# Altium footprint library FireFly.PcbLib: 18 footprints (part 1 of 2)
Each footprint in its own frame and in the unit in brackets; x right, y up, seen from the top. Pads: shape width x height; smd on the part's side, far side on the other; paste and mask are expansions set on the pad; w line width, h text height; cw(c..) or ccw(c..) is an arc to the next point about the centre after c.
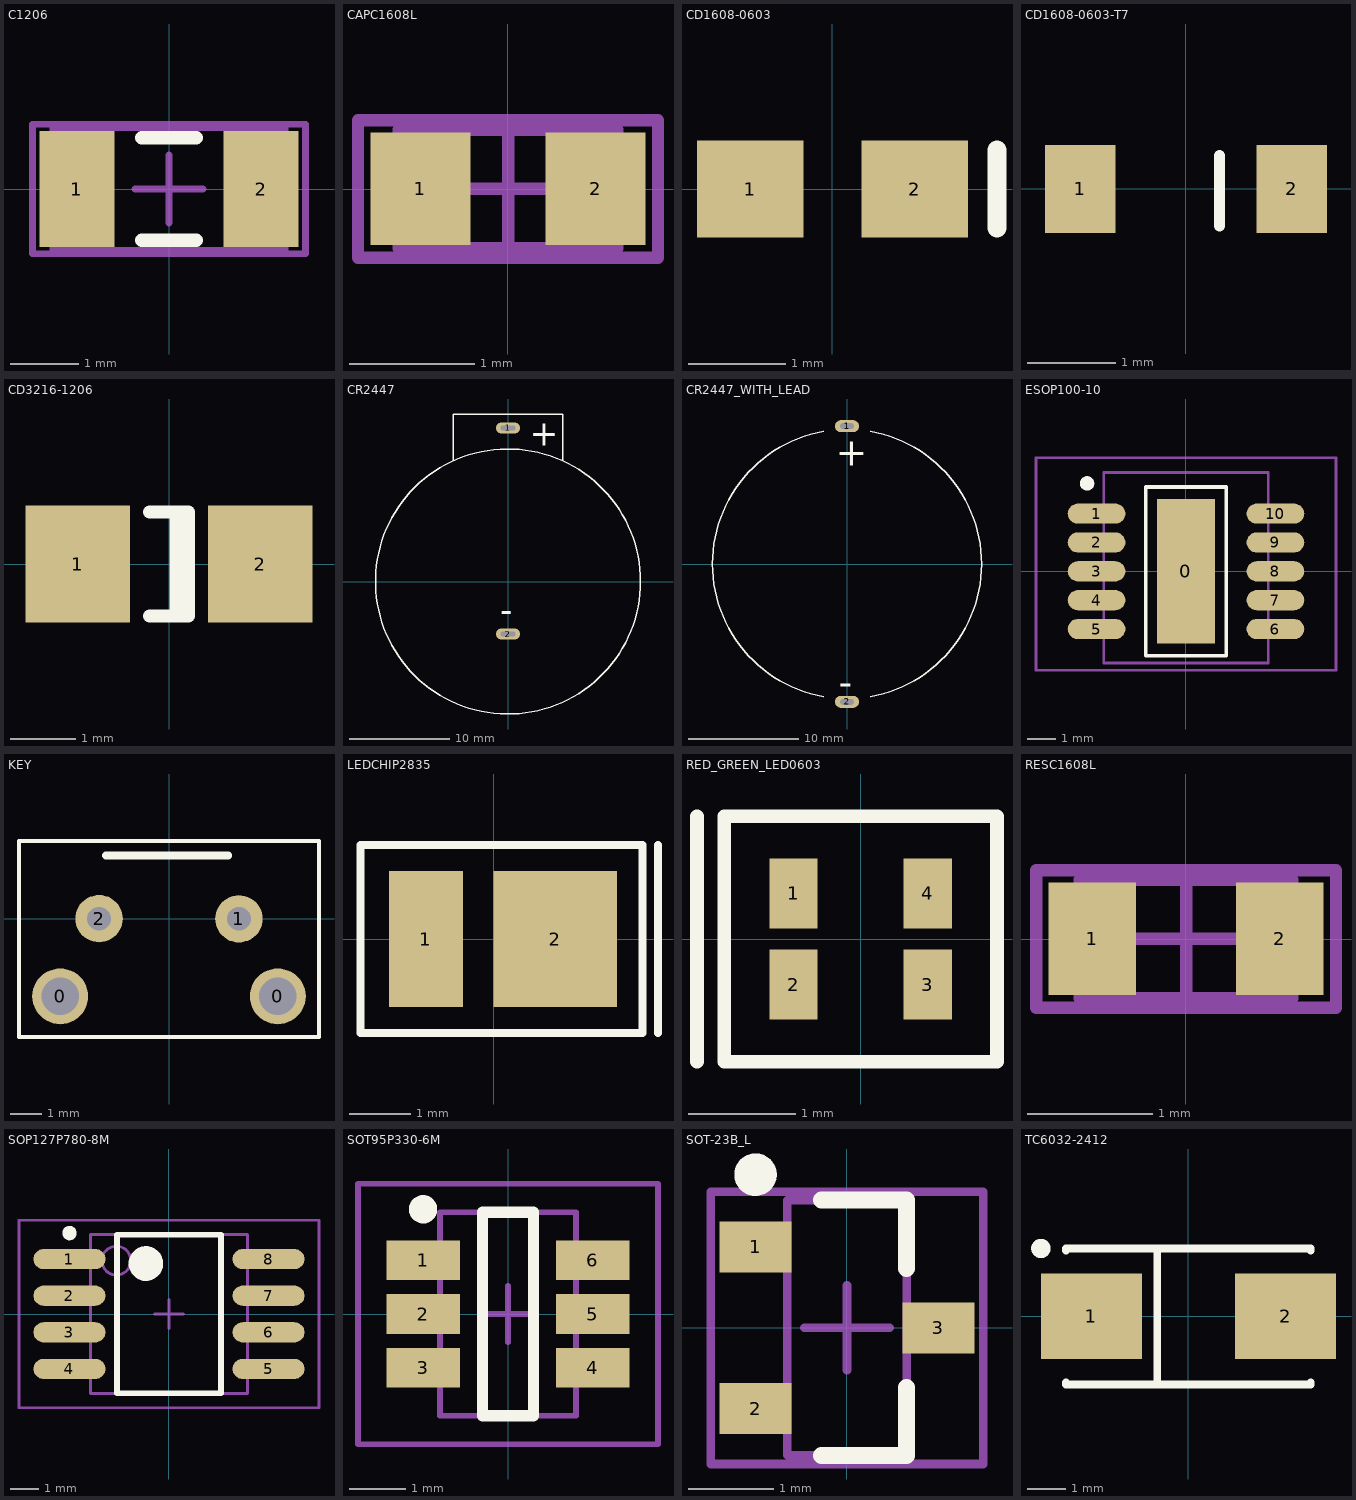
[diagram p0: the footprints below, top view; thin cyan lines are the x and y axes]

## C1206 [mm] "Chip Capacitor, Body 3.2x1.6mm, IPC High Density"
height 1.3
pads (2):
  rect 1.1x1.7 smd: 1(-1.35,0) 2(1.35,0)
Top Overlay:
  lines w0.2: -0.4,-0.75 0.4,-0.75 ; -0.4,0.75 0.4,0.75
Mechanical 13:
  lines w0.1: -1.7,-0.9 -1.7,0.9 1.7,0.9 1.7,-0.9 -1.7,-0.9
Mechanical 15:
  lines w0.1: -0.5,0 0.5,0 ; 0,-0.5 0,0.5 ; -2,-0.95 -2,0.95 2,0.95 2,-0.95 -2,-0.95
3D body: height 1.3, standoff 0, extent -1.7,-0.9 1.7,0.9

## CAPC1608L [mm] "Chip Capacitor, Body 1.6x0.8mm, IPC High Density"
height 0.85
pads (2):
  rect 0.8x0.9 smd: 1(-0.7,0) 2(0.7,0)
Mechanical 13:
  lines w0.1: -0.875,-0.475 0.875,-0.475 0.875,0.475 -0.875,0.475 -0.875,-0.475
Mechanical 15:
  lines w0.1: -0.475,0 0.475,0 ; 0,-0.475 0,0.475 ; -1.2,-0.55 1.2,-0.55 1.2,0.55 -1.2,0.55 -1.2,-0.55
3D body: height 0.85, standoff 0, extent -0.875,-0.475 0.875,0.475

## CD1608-0603 [mm] "Chip Diode; Body 1.6 x 0.8 mm (LxW typ)"
height 0.85
pads (2):
  rect 1.1x1 smd: 1(-0.85,0) 2(0.85,0)
Top Overlay:
  lines w0.2: 1.7,-0.4 1.7,0.4

## CD1608-0603-T7 [mm] "Chip Diode; Body 1.6 x 0.8 mm (LxW typ)"
height 0.85
pads (2):
  rect 0.8x1 smd: 1(-1.2,0) 2(1.2,0)
Top Overlay:
  lines w0.127: 0.381,-0.419 0.381,0.381

## CD3216-1206 [mm] "Chip Diode; Body 3.2 x 1.6 mm (LxW typ)"
height 1.35
pads (2):
  rect 1.6x1.8 smd: 1(-1.4,0) 2(1.4,0)
Top Overlay:
  lines w0.2: -0.3,-0.8 0.3,-0.8 0.3,0.8 -0.3,0.8 ; 0.11,-0.8 0.11,0.8

## CR2447 [mm] "CR2447 Box"
pads (2):
  oval 2.4x1.1 hole 0.5 slot 1.5 at 0 deg: 1(0,15.35) 2(0,-5.25)
Top Overlay:
  circle w0.128: c0,0 r13.25
  lines w0.127: -5.5,12.104 -5.5,16.75 5.5,16.75 5.5,12.104
  text "-" at -0.762,-4.056 h2.52
  text "+" at 2.159,13.589 h2.52

## CR2447_WITH_LEAD [mm] "CR2447 Box"
pads (2):
  oval 2.2x1.1 hole 0.5 slot 1.2 at 0 deg: 1(0,12.5) 2(0,-12.5)
Top Overlay:
  lines w0.127: 2.119,-12.015 ccw(c0,0) 2.119,12.015
  lines w0.128: -2.119,-12.015 cw(c0,0) -2.119,12.015
  text "-" at -0.762,-11.93 h2.52
  text "+" at -1.016,8.89 h2.52

## ESOP100-10 [mm] "10-Pin Small Outline Package 1.00 mm Pitch and Pad"
height 2.2
pads (11):
  rect 2x5 smd: 0(0,0)
  oval 2x0.7 smd: 1(-3.1,2) 2(-3.1,1) 3(-3.1,0) 4(-3.1,-1) 5(-3.1,-2) 6(3.1,-2) 7(3.1,-1) 8(3.1,0) 9(3.1,1) 10(3.1,2)
Top Overlay:
  circle w0.25: c-3.429,3.048 r0.125
  lines w0.127: -1.397,-2.921 1.397,-2.921 1.397,2.921 -1.397,2.921 -1.397,-2.921
Mechanical 13:
  lines w0.1: -2.85,-3.175 2.85,-3.175 2.85,3.429 -2.85,3.429 -2.85,-3.175
Mechanical 15:
  lines w0.1: -0.5,0 0.5,0 ; 0,-0.5 0,0.5 ; -5.2,-3.429 5.2,-3.429 5.2,3.937 -5.2,3.937 -5.2,-3.429
3D body: height 2.2, standoff 0, extent -2.85,-3.175 2.85,3.429

## KEY [mm]
pads (4):
  round 1.8 hole 1.2: 0(-3.5,-2.5) 0(3.5,-2.5)
  round 1.524 hole 0.762: 1(2.25,-0.007) 2(-2.25,0)
Top Overlay:
  lines w0.127: -4.826,-3.81 4.826,-3.81 4.826,2.5 -4.826,2.5 -4.826,-3.81
  lines w0.254: -2.032,2.032 1.905,2.032

## LEDCHIP2835 [mm] "LEDCHIP2835"
pads (2):
  rect 1.2x2.2 smd: 1(-1.1,0)
  rect 2x2.2 smd: 2(1,0)
Top Overlay:
  lines w0.127: 2.667,-1.524 2.667,1.524 ; -2.159,-1.524 2.413,-1.524 2.413,1.524 -2.159,1.524 -2.159,-1.524
3D body: height 0.7, standoff 0, extent -1.524,-1.397 1.778,1.397

## RED_GREEN_LED0603 [mm] "RED_GREEN_LED0603"
pads (4):
  rect 0.45x0.65 smd mask-2539.97: 1(-0.625,0.425) 2(-0.625,-0.425) 3(0.625,-0.425) 4(0.625,0.425)
Top Overlay:
  lines w0.127: -1.524,-1.143 -1.524,1.143 ; -1.27,-1.143 -1.27,1.143 1.27,1.143 1.27,-1.143 -1.27,-1.143
Top Solder:
  region: -0.875,0.075 -0.875,0.775 -0.375,0.775 -0.375,0.075
  region: -0.875,-0.775 -0.875,-0.075 -0.375,-0.075 -0.375,-0.775
  region: 0.375,0.075 0.375,0.775 0.875,0.775 0.875,0.075
  region: 0.375,-0.775 0.375,-0.075 0.875,-0.075 0.875,-0.775

## RESC1608L [mm] "Chip Resistor, Body 1.6x0.8mm, IPC High Density"
height 0.6
pads (2):
  rect 0.7x0.9 smd: 1(-0.75,0) 2(0.75,0)
Mechanical 13:
  lines w0.1: -0.85,-0.475 -0.85,0.475 0.85,0.475 0.85,-0.475 -0.85,-0.475
Mechanical 15:
  lines w0.1: -0.475,0 0.475,0 ; 0,-0.475 0,0.475 ; -1.2,-0.55 -1.2,0.55 1.2,0.55 1.2,-0.55 -1.2,-0.55
3D body: height 0.6, standoff 0, extent -0.85,-0.475 0.85,0.475

## SOP127P780-8M [mm] "SOP, 8-Leads, Body 5.3x5.3mm, Pitch 1.27mm, IPC Low Density"
height 2.03
pads (8):
  oval 2.5x0.7 smd: 1(-3.45,1.905) 2(-3.45,0.635) 3(-3.45,-0.635) 4(-3.45,-1.905) 5(3.45,-1.905) 6(3.45,-0.635) 7(3.45,0.635) 8(3.45,1.905)
Top Overlay:
  circle w0.6: c-0.8,1.75 r0.3
  circle w0.25: c-3.45,2.805 r0.125
  lines w0.2: -1.8,-2.75 1.8,-2.75 1.8,2.75 -1.8,2.75 -1.8,-2.75
Mechanical 13:
  circle w0.1: c-1.825,1.85 r0.5
  lines w0.1: -2.725,-2.75 2.725,-2.75 2.725,2.75 -2.725,2.75 -2.725,-2.75
Mechanical 15:
  lines w0.1: -0.5,0 0.5,0 ; 0,-0.5 0,0.5 ; -5.2,-3.25 5.2,-3.25 5.2,3.25 -5.2,3.25 -5.2,-3.25
3D body: height 2.03, standoff 0, extent -2.725,-2.75 2.725,2.75

## SOT95P330-6M [mm]
pads (6):
  rect 1.3x0.7 smd: 1(-1.5,0.95) 2(-1.5,0) 3(-1.5,-0.95) 4(1.5,-0.95) 5(1.5,0) 6(1.5,0.95)
Top Overlay:
  circle w0.25: c-1.5,1.85 r0.125
  lines w0.2: -0.45,-1.8 0.45,-1.8 0.45,1.8 -0.45,1.8 -0.45,-1.8
Mechanical 13:
  lines w0.1: -1.2,-1.8 -1.2,1.8 1.2,1.8 1.2,-1.8 -1.2,-1.8
Mechanical 15:
  lines w0.1: -0.5,0 0.5,0 ; 0,-0.5 0,0.5 ; -2.65,-2.3 -2.65,2.3 2.65,2.3 2.65,-2.3 -2.65,-2.3
3D body: height 0, standoff 0, extent -1.2,-1.8 1.2,1.8

## SOT-23B_L [mm] "SOT23, 3-Leads, Body 2.9x1.3mm, Pitch 0.95mm, Lead Span 2.4mm, IPC High Density"
height 1.14
pads (3):
  rect 0.85x0.6 smd: 1(-1.075,0.95) 2(-1.075,-0.95) 3(1.075,0)
Top Overlay:
  circle w0.25: c-1.075,1.8 r0.125
  lines w0.2: -0.3,-1.5 0.7,-1.5 0.7,-0.7 ; -0.3,1.5 0.7,1.5 0.7,0.7
Mechanical 13:
  lines w0.1: -0.7,-1.5 0.7,-1.5 0.7,1.5 -0.7,1.5 -0.7,-1.5
Mechanical 15:
  lines w0.1: -0.5,0 0.5,0 ; 0,-0.5 0,0.5 ; -1.6,-1.6 1.6,-1.6 1.6,1.6 -1.6,1.6 -1.6,-1.6
3D body: height 1.14, standoff 0, extent -0.7,-1.5 0.7,1.5

## TC6032-2412 [mm] "Capacitor, SM Tantalum; Body 6.0 x 3.2 mm (LxW typ)"
height 3.4
pads (2):
  rect 2.6x2.2 smd: 1(-2.5,0) 2(2.5,0)
Top Overlay:
  circle w0.25: c-3.8,1.75 r0.125
  lines w0.2: -3.15,-1.7 -3.15,-1.75 3.15,-1.75 3.15,-1.7 ; -3.15,1.7 -3.15,1.75 3.15,1.75 3.15,1.7 ; -0.8,-1.75 -0.8,1.75